# Altium schematic symbol library HV9110.SchLib: 27 symbols
Pins are listed as number, name and electrical type; pins without a type are passive.

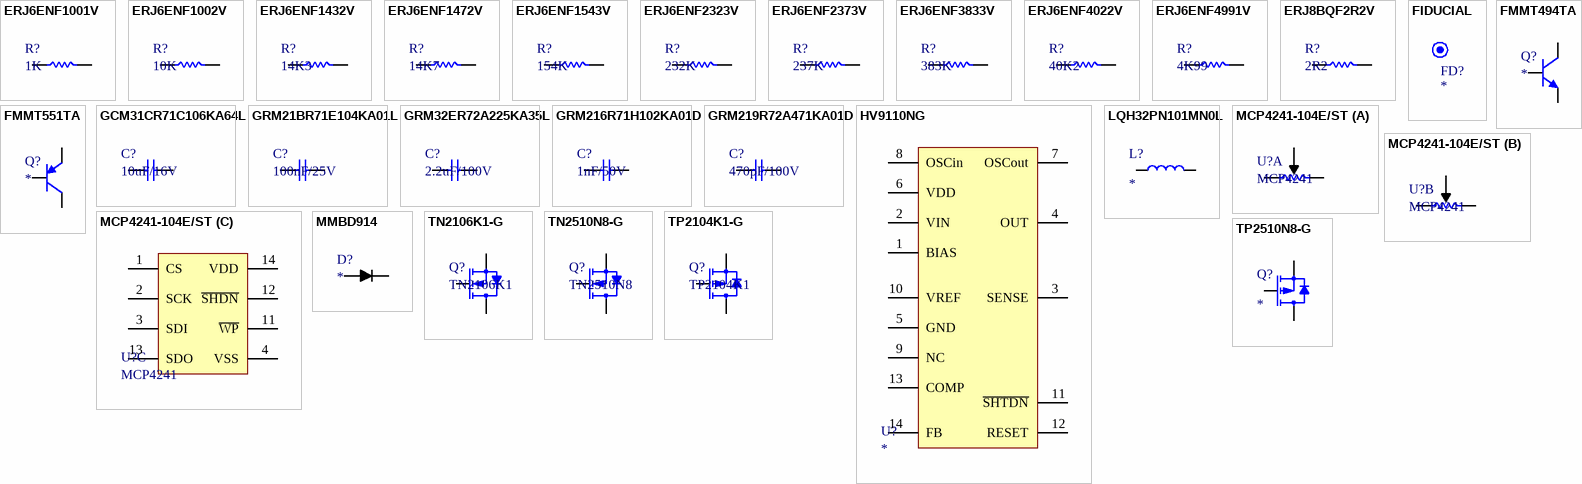
[diagram p0: symbols ERJ6ENF1001V to TP2510N8-G]

## ERJ6ENF1001V
designator R?, comment 1K
RESISTOR 0805 1K 1%; Manufacturer: Panasonic; Manufacturer Part Number: ERJ-6ENF1001V; Temperature Coefficient: 100ppm/°C; Power Rating: 125mW; Voltage Rating (DC): 150V; Supplier 1: Farnell; Stock 1: 0; Mount: Surface Mount; Case/Package: 0805; Number of Pins: 2; Min Operating Temperature: -55°C; Max Operating Temperature: 155°C; Resistance: 1K; Tolerance: 1%; Packaging: Cut Tape; Number of Terminations: 2; Working Voltage: 150V; Length: 2mm; Height: 0.6mm; Depth: 1.25mm; Width: 1.25mm; REACH SVHC: No SVHC; Lead Free: Lead Free
footprint RES 0805/2012 (Chip Resistor, 2-Leads, Body 2.00x1.25mm, IPC Medium Density)
pins: 1, 2

## ERJ6ENF1002V
designator R?, comment 10K
RESISTOR 0805 10K 1%; Manufacturer: Panasonic; Manufacturer Part Number: ERJ-6ENF1002V; Temperature Coefficient: 100ppm/°C; Power Rating: 125mW; Voltage Rating (DC): 150V; Supplier 1: Farnell; Stock 1: 0; Mount: Surface Mount; Case/Package: 0805; Number of Pins: 2; Contact Plating: Tin; Case Code (Metric): 2012; Case Code (Imperial): 0805; Min Operating Temperature: -55°C; Max Operating Temperature: 155°C; Resistance: 10K; Tolerance: 1%; Packaging: Tape and Reel; Composition: Thick Film; Voltage Rating: 150V; Package Quantity: 5000; Number of Terminations: 2; Termination: SMD/SMT; Military Standard: Not; Max Power Dissipation: 125mW; Working Voltage: 150V; Features: Automotive AEC-Q200; Length: 2mm; Height: 0.6mm; Width: 0.049inch; Depth: 1.25mm; Radiation Hardening: No; REACH SVHC: No SVHC; Lead Free: Lead Free; ComponentLink1URL: http://industrial.panasonic.com/www-data/pdf/AOA0000/AOA0000CE2.pdf?src-supplier=Avnet+Asia; ComponentLink1Description: http://industrial.panasonic.com/www-data/pdf/AOA0000/AOA0000CE2.pdf?src-supplier=Avnet+Asia; ComponentLink2URL: http://www.jameco.com/Jameco/Products/ProdDS/1988971.pdf?src-supplier=Jameco; ComponentLink2Description: http://www.jameco.com/Jameco/Products/ProdDS/1988971.pdf?src-supplier=Jameco; ComponentLink3URL: http://www.alliedelec.com/m/d/623f45ff1957d936ff56d46fd1c28cac.pdf?src-supplier=Allied+Electronics; ComponentLink3Description: http://www.alliedelec.com/m/d/623f45ff1957d936ff56d46fd1c28cac.pdf?src-supplier=Allied+Electronics; ComponentLink4URL: http://www.farnell.com/datasheets/426256.pdf?src-supplier=Element14; ComponentLink4Description: http://www.farnell.com/datasheets/426256.pdf?src-supplier=Element14; ComponentLink5URL: http://www.farnell.com/datasheets/1911175.pdf?src-supplier=Element14; ComponentLink5Description: http://www.farnell.com/datasheets/1911175.pdf?src-supplier=Element14; ComponentLink6URL: http://industrial.panasonic.com/www-data/pdf/AOA0000/AOA0000CE2.pdf?src-supplier=Avnet+Europe; ComponentLink6Description: http://industrial.panasonic.com/www-data/pdf/AOA0000/AOA0000CE2.pdf?src-supplier=Avnet+Europe; ComponentLink7URL: http://www.mouser.com/ds/2/315/AOA0000CE2-37512.pdf?src-supplier=Mouser; ComponentLink7Description: http://www.mouser.com/ds/2/315/AOA0000CE2-37512.pdf?src-supplier=Mouser
footprint RES 0805/2012 (Chip Resistor, 2-Leads, Body 2.00x1.25mm, IPC Medium Density)
pins: 1, 2

## ERJ6ENF1432V
designator R?, comment 14K3
RESISTOR 0805 14K3 1%; Manufacturer: Panasonic; Manufacturer Part Number: ERJ-6ENF1432V; Power Rating: 125mW; Voltage Rating: 150V; Temperature Coefficient: 100ppm/°C; Supplier 1: Farnell; Stock 1: 0; Mount: Surface Mount; Case/Package: 0805; Weight: 0.000194oz; Case Code (Metric): 2012; Case Code (Imperial): 0805; Contact Plating: Tin; Min Operating Temperature: -55°C; Max Operating Temperature: 155°C; Resistance: 14K3; Tolerance: 1%; Packaging: Tape and Reel; Package Quantity: 1; Composition: Thick Film; Number of Terminations: 2; Termination: SMD/SMT; Military Standard: Not; Max Power Dissipation: 125mW; Voltage Rating (DC): 150V; Features: Automotive AEC-Q200; Length: 2mm; Height: 0.028inch; Width: 0.049inch; Depth: 1.25mm; REACH SVHC: No SVHC; Lead Free: Lead Free; ComponentLink1URL: http://www.farnell.com/datasheets/1694929.pdf?src-supplier=Element14; ComponentLink1Description: http://www.farnell.com/datasheets/1694929.pdf?src-supplier=Element14; ComponentLink2URL: http://www.mouser.com/ds/2/315/AOA0000C304-1149620.pdf?src-supplier=Mouser; ComponentLink2Description: http://www.mouser.com/ds/2/315/AOA0000C304-1149620.pdf?src-supplier=Mouser; ComponentLink3URL: http://industrial.panasonic.com/www-data/pdf/AOA0000/AOA0000CE2.pdf?src-supplier=Avnet; ComponentLink3Description: http://industrial.panasonic.com/www-data/pdf/AOA0000/AOA0000CE2.pdf?src-supplier=Avnet; ComponentLink4URL: http://www.farnell.com/datasheets/1678782.pdf?src-supplier=Element14; ComponentLink4Description: http://www.farnell.com/datasheets/1678782.pdf?src-supplier=Element14
footprint RES 0805/2012 (Chip Resistor, 2-Leads, Body 2.00x1.25mm, IPC Medium Density)
pins: 1, 2

## ERJ6ENF1472V
designator R?, comment 14K7
RESISTOR 0805 14K7 1%; Manufacturer: Panasonic; Manufacturer Part Number: ERJ-6ENF1472V; Temperature Coefficient: 100ppm/°C; Power Rating: 125mW; Voltage Rating: 150V; Supplier 1: Farnell; Stock 1: 0; Mount: Surface Mount; Case/Package: 0805; Contact Plating: Tin; Case Code (Metric): 2012; Case Code (Imperial): 0805; Min Operating Temperature: -55°C; Max Operating Temperature: 155°C; Resistance: 14K7; Tolerance: 1%; Composition: Thick Film; Packaging: Tape and Reel; Package Quantity: 1; Number of Terminations: 2; Military Standard: Not; Termination: Solder; Max Power Dissipation: 125mW; Voltage Rating (DC): 150V; Features: Automotive AEC-Q200; Length: 2mm; Height: 0.6mm; Width: 0.049inch; Depth: 1.25mm; Radiation Hardening: No; REACH SVHC: No SVHC; Lead Free: Lead Free; ComponentLink1URL: http://www.farnell.com/datasheets/1678782.pdf?src-supplier=Element14; ComponentLink1Description: http://www.farnell.com/datasheets/1678782.pdf?src-supplier=Element14; ComponentLink2URL: https://www.alliedelec.com/m/d/623f45ff1957d936ff56d46fd1c28cac.pdf?src-supplier=Allied+Electronics; ComponentLink2Description: https://www.alliedelec.com/m/d/623f45ff1957d936ff56d46fd1c28cac.pdf?src-supplier=Allied+Electronics; ComponentLink3URL: http://industrial.panasonic.com/www-data/pdf/AOA0000/AOA0000CE2.pdf?src-supplier=Avnet; ComponentLink3Description: http://industrial.panasonic.com/www-data/pdf/AOA0000/AOA0000CE2.pdf?src-supplier=Avnet; ComponentLink4URL: http://industrial.panasonic.com/www-data/pdf/AOA0000/AOA0000CE2.pdf?src-supplier=Avnet+Europe; ComponentLink4Description: http://industrial.panasonic.com/www-data/pdf/AOA0000/AOA0000CE2.pdf?src-supplier=Avnet+Europe; ComponentLink5URL: http://www.farnell.com/datasheets/1678782.pdf?src-supplier=Farnell; ComponentLink5Description: http://www.farnell.com/datasheets/1678782.pdf?src-supplier=Farnell; ComponentLink6URL: http://www.mouser.com/ds/2/315/AOA0000C283-1093288.pdf?src-supplier=Mouser; ComponentLink6Description: http://www.mouser.com/ds/2/315/AOA0000C283-1093288.pdf?src-supplier=Mouser
footprint RES 0805/2012 (Chip Resistor, 2-Leads, Body 2.00x1.25mm, IPC Medium Density)
pins: 1, 2

## ERJ6ENF1543V
designator R?, comment 154K
RESISTOR 0805 154K 1%; Manufacturer: Panasonic; Manufacturer Part Number: ERJ-6ENF1543V; Temperature Coefficient: 100ppm/°C; Power Rating: 125mW; Voltage Rating: 150V; Supplier 1: Farnell; Stock 1: 0; Mount: Surface Mount; Case/Package: 0805; Contact Plating: Tin; Case Code (Metric): 2012; Case Code (Imperial): 0805; Min Operating Temperature: -55°C; Max Operating Temperature: 155°C; Resistance: 154K; Tolerance: 1%; Composition: Thick Film; Packaging: Tape and Reel; Package Quantity: 1; Number of Terminations: 2; Termination: SMD/SMT; Military Standard: Not; Max Power Dissipation: 125mW; Voltage Rating (DC): 150V; Features: Automotive AEC-Q200; Length: 2mm; Height: 0.6mm; Width: 0.049inch; Depth: 1.25mm; Height - Seated (Max): 0.028inch; Radiation Hardening: No; REACH SVHC: Yes; Lead Free: Lead Free; ComponentLink1URL: http://www.farnell.com/datasheets/1678782.pdf?src-supplier=Element14; ComponentLink1Description: http://www.farnell.com/datasheets/1678782.pdf?src-supplier=Element14; ComponentLink2URL: https://www.alliedelec.com/m/d/623f45ff1957d936ff56d46fd1c28cac.pdf?src-supplier=Allied+Electronics; ComponentLink2Description: https://www.alliedelec.com/m/d/623f45ff1957d936ff56d46fd1c28cac.pdf?src-supplier=Allied+Electronics; ComponentLink3URL: http://industrial.panasonic.com/www-data/pdf/AOA0000/AOA0000CE2.pdf?src-supplier=Avnet+Europe; ComponentLink3Description: http://industrial.panasonic.com/www-data/pdf/AOA0000/AOA0000CE2.pdf?src-supplier=Avnet+Europe; ComponentLink4URL: http://www.industrial.panasonic.com/www-data/pdf/AOA0000/AOA0000CE2.pdf?src-supplier=Element14; ComponentLink4Description: http://www.industrial.panasonic.com/www-data/pdf/AOA0000/AOA0000CE2.pdf?src-supplier=Element14
footprint RES 0805/2012 (Chip Resistor, 2-Leads, Body 2.00x1.25mm, IPC Medium Density)
pins: 1, 2

## ERJ6ENF2323V
designator R?, comment 232K
RESISTOR 0805 232K 1%; Manufacturer: Panasonic; Manufacturer Part Number: ERJ-6ENF2323V; Voltage Rating: 150V; Power Rating: 125mW; Temperature Coefficient: 100ppm/°C; Supplier 1: Farnell; Stock 1: 0; Mount: Surface Mount; Case/Package: 0805; Case Code (Imperial): 0805; Case Code (Metric): 2012; Contact Plating: Tin; Min Operating Temperature: -55°C; Max Operating Temperature: 155°C; Packaging: Tape and Reel; Resistance: 232K; Tolerance: 1%; Package Quantity: 5000; Termination: SMD/SMT; Composition: Thick Film; Number of Terminations: 2; Military Standard: Not; Max Power Dissipation: 125mW; Voltage Rating (DC): 150V; Features: Automotive AEC-Q200; Length: 2mm; Height: 0.6mm; Width: 1.2mm; Depth: 1.25mm; Height - Seated (Max): 0.028inch; Radiation Hardening: No; REACH SVHC: Yes; Lead Free: Lead Free; ComponentLink1URL: http://www.farnell.com/datasheets/1678782.pdf?src-supplier=Element14; ComponentLink1Description: http://www.farnell.com/datasheets/1678782.pdf?src-supplier=Element14; ComponentLink2URL: http://industrial.panasonic.com/www-data/pdf/AOA0000/AOA0000CE2.pdf?src-supplier=Avnet; ComponentLink2Description: http://industrial.panasonic.com/www-data/pdf/AOA0000/AOA0000CE2.pdf?src-supplier=Avnet; ComponentLink3URL: http://industrial.panasonic.com/www-data/pdf/AOA0000/AOA0000CE2.pdf?src-supplier=Avnet+Asia; ComponentLink3Description: http://industrial.panasonic.com/www-data/pdf/AOA0000/AOA0000CE2.pdf?src-supplier=Avnet+Asia
footprint RES 0805/2012 (Chip Resistor, 2-Leads, Body 2.00x1.25mm, IPC Medium Density)
pins: 1, 2

## ERJ6ENF2373V
designator R?, comment 237K
RESISTOR 0805 237K 1%; Manufacturer: Panasonic; Manufacturer Part Number: ERJ-6ENF2373V; Power Rating: 125mW; Voltage Rating: 150V; Temperature Coefficient: 100ppm/°C; Supplier 1: Farnell; Stock 1: 0; Mount: Surface Mount; Case/Package: 0805; Case Code (Imperial): 0805; Case Code (Metric): 2012; Contact Plating: Tin; Min Operating Temperature: -55°C; Max Operating Temperature: 155°C; Package Quantity: 1; Resistance: 237K; Packaging: Tape and Reel; Tolerance: 1%; Termination: SMD/SMT; Composition: Thick Film; Number of Terminations: 2; Military Standard: Not; Max Power Dissipation: 125mW; Voltage Rating (DC): 150V; Features: Automotive AEC-Q200; Length: 2mm; Height: 0.028inch; Width: 1.2mm; Depth: 1.25mm; REACH SVHC: No SVHC; Lead Free: Contains Lead; ComponentLink1URL: http://www.farnell.com/datasheets/1678782.pdf?src-supplier=Element14; ComponentLink1Description: http://www.farnell.com/datasheets/1678782.pdf?src-supplier=Element14
footprint RES 0805/2012 (Chip Resistor, 2-Leads, Body 2.00x1.25mm, IPC Medium Density)
pins: 1, 2

## ERJ6ENF3833V
designator R?, comment 383K
RESISTOR 0805 383K 1%; Manufacturer: Panasonic; Manufacturer Part Number: ERJ-6ENF3833V; Power Rating: 125mW; Voltage Rating: 150V; Temperature Coefficient: 100ppm/°C; Supplier 1: Farnell; Stock 1: 0; Mount: Surface Mount; Case/Package: 0805; Case Code (Metric): 2012; Case Code (Imperial): 0805; Contact Plating: Tin; Min Operating Temperature: -55°C; Max Operating Temperature: 155°C; Resistance: 383K; Tolerance: 1%; Packaging: Tape and Reel; Package Quantity: 1; Composition: Thick Film; Number of Terminations: 2; Termination: SMD/SMT; Military Standard: Not; Max Power Dissipation: 125mW; Voltage Rating (DC): 150V; Features: Automotive AEC-Q200; Length: 2mm; Height: 0.028inch; Width: 0.049inch; Depth: 1.25mm; REACH SVHC: Yes; Lead Free: Lead Free; ComponentLink1URL: http://www.farnell.com/datasheets/1678782.pdf?src-supplier=Farnell; ComponentLink1Description: http://www.farnell.com/datasheets/1678782.pdf?src-supplier=Farnell; ComponentLink2URL: http://industrial.panasonic.com/www-data/pdf/AOA0000/AOA0000CE2.pdf?src-supplier=Avnet; ComponentLink2Description: http://industrial.panasonic.com/www-data/pdf/AOA0000/AOA0000CE2.pdf?src-supplier=Avnet; ComponentLink3URL: http://www.mouser.com/ds/2/315/AOA0000CE2-37512.pdf?src-supplier=Mouser; ComponentLink3Description: http://www.mouser.com/ds/2/315/AOA0000CE2-37512.pdf?src-supplier=Mouser; ComponentLink4URL: http://www.farnell.com/datasheets/1678782.pdf?src-supplier=Element14; ComponentLink4Description: http://www.farnell.com/datasheets/1678782.pdf?src-supplier=Element14
footprint RES 0805/2012 (Chip Resistor, 2-Leads, Body 2.00x1.25mm, IPC Medium Density)
pins: 1, 2

## ERJ6ENF4022V
designator R?, comment 40K2
RESISTOR 0805 40K2 1%; Manufacturer: Panasonic; Manufacturer Part Number: ERJ-6ENF4022V; Temperature Coefficient: 100ppm/°C; Voltage Rating: 150V; Power Rating: 125mW; Supplier 1: Farnell; Stock 1: 0; Mount: Surface Mount; Case/Package: 0805; Contact Plating: Tin; Case Code (Metric): 2012; Case Code (Imperial): 0805; Min Operating Temperature: -55°C; Max Operating Temperature: 155°C; Resistance: 40K2; Tolerance: 1%; Composition: Thick Film; Packaging: Tape and Reel; Package Quantity: 1; Number of Terminations: 2; Termination: SMD/SMT; Military Standard: Not; Max Power Dissipation: 125mW; Voltage Rating (DC): 150V; Features: Automotive AEC-Q200; Length: 2mm; Height: 0.6mm; Width: 0.049inch; Depth: 1.25mm; Radiation Hardening: No; REACH SVHC: No SVHC; Lead Free: Lead Free; ComponentLink1URL: http://industrial.panasonic.com/www-data/pdf/AOA0000/AOA0000CE2.pdf?src-supplier=Avnet; ComponentLink1Description: http://industrial.panasonic.com/www-data/pdf/AOA0000/AOA0000CE2.pdf?src-supplier=Avnet; ComponentLink2URL: http://industrial.panasonic.com/www-data/pdf/AOA0000/AOA0000CE2.pdf?src-supplier=Avnet+Asia; ComponentLink2Description: http://industrial.panasonic.com/www-data/pdf/AOA0000/AOA0000CE2.pdf?src-supplier=Avnet+Asia; ComponentLink3URL: http://industrial.panasonic.com/www-data/pdf/AOA0000/AOA0000CE2.pdf?src-supplier=Avnet+Europe; ComponentLink3Description: http://industrial.panasonic.com/www-data/pdf/AOA0000/AOA0000CE2.pdf?src-supplier=Avnet+Europe; ComponentLink4URL: http://www.farnell.com/datasheets/426256.pdf?src-supplier=Element14; ComponentLink4Description: http://www.farnell.com/datasheets/426256.pdf?src-supplier=Element14; ComponentLink5URL: http://www.farnell.com/datasheets/1911175.pdf?src-supplier=Farnell; ComponentLink5Description: http://www.farnell.com/datasheets/1911175.pdf?src-supplier=Farnell
footprint RES 0805/2012 (Chip Resistor, 2-Leads, Body 2.00x1.25mm, IPC Medium Density)
pins: 1, 2

## ERJ6ENF4991V
designator R?, comment 4K99
RESISTOR 0805 4K99 1%; Manufacturer: Panasonic; Manufacturer Part Number: ERJ6ENF4991V; Temperature Coefficient: 100ppm/°C; Power Rating: 125mW; Voltage Rating: 150V; Supplier 1: Farnell; Stock 1: 0; Mount: Surface Mount; Case/Package: 0805; Contact Plating: Tin; Case Code (Metric): 2012; Case Code (Imperial): 0805; Min Operating Temperature: -55°C; Max Operating Temperature: 155°C; Resistance: 4K99; Tolerance: 1%; Composition: Thick Film; Packaging: Tape and Reel; Package Quantity: 5000; Number of Terminations: 2; Termination: SMD/SMT; Military Standard: Not; Max Power Dissipation: 125mW; Voltage Rating (DC): 150V; Features: Automotive AEC-Q200; Length: 2mm; Height: 0.028inch; Width: 0.049inch; Depth: 1.25mm; Radiation Hardening: No; REACH SVHC: No SVHC; Lead Free: Lead Free; ComponentLink1URL: http://www.jameco.com/Jameco/Products/ProdDS/1989391.pdf?src-supplier=Jameco; ComponentLink1Description: http://www.jameco.com/Jameco/Products/ProdDS/1989391.pdf?src-supplier=Jameco; ComponentLink2URL: http://www.alliedelec.com/m/d/623f45ff1957d936ff56d46fd1c28cac.pdf?src-supplier=Allied+Electronics; ComponentLink2Description: http://www.alliedelec.com/m/d/623f45ff1957d936ff56d46fd1c28cac.pdf?src-supplier=Allied+Electronics; ComponentLink3URL: http://www.farnell.com/datasheets/426256.pdf?src-supplier=Element14; ComponentLink3Description: http://www.farnell.com/datasheets/426256.pdf?src-supplier=Element14; ComponentLink4URL: http://industrial.panasonic.com/www-data/pdf/AOA0000/AOA0000CE2.pdf?src-supplier=Avnet; ComponentLink4Description: http://industrial.panasonic.com/www-data/pdf/AOA0000/AOA0000CE2.pdf?src-supplier=Avnet; ComponentLink5URL: http://www.mouser.com/ds/2/315/AOA0000CE2-37512.pdf?src-supplier=Mouser; ComponentLink5Description: http://www.mouser.com/ds/2/315/AOA0000CE2-37512.pdf?src-supplier=Mouser; ComponentLink6URL: http://industrial.panasonic.com/www-data/pdf/AOA0000/AOA0000CE2.pdf?src-supplier=Future+Electronics; ComponentLink6Description: http://industrial.panasonic.com/www-data/pdf/AOA0000/AOA0000CE2.pdf?src-supplier=Future+Electronics
footprint RES 0805/2012 (Chip Resistor, 2-Leads, Body 2.00x1.25mm, IPC Medium Density)
pins: 1, 2

## ERJ8BQF2R2V
designator R?, comment 2R2
RESISTOR 1206 2R2 1%; Manufacturer: Panasonic; Manufacturer Part Number: ERJ-8BQF2R2V; Temperature Coefficient: 200ppm/°C; Power Rating: 330mW; Max Power Dissipation: 500mW; Supplier 1: Farnell; Stock 1: 0; Pricing 1: 150=0.113, 500=0.089, 1000=0.0608, 2500=0.0557, 5000=0.0399, 25000=0.0355, 50000=0.035 (EUR); Mount: Surface Mount; Case/Package: 1206; Number of Pins: 2; Contact Plating: Tin; Case Code (Imperial): 1206; Case Code (Metric): 3216; Min Operating Temperature: -55°C; Max Operating Temperature: 125°C; Resistance: 2R2; Tolerance: 1%; Composition: Thick Film,Low-Ohm-Resistor; Packaging: Tape and Reel; Package Quantity: 5000; Termination: SMD/SMT; Number of Terminations: 2; Military Standard: Not; Features: Automotive AEC-Q200; Length: 3.2mm; Height: 0.6mm; Width: 1.6mm; Depth: 1.6mm; Radiation Hardening: No; REACH SVHC: No SVHC; ComponentLink1URL: http://industrial.panasonic.com/www-data/pdf/AOA0000/AOA0000CE3.pdf?src-supplier=Avnet+Europe; ComponentLink1Description: http://industrial.panasonic.com/www-data/pdf/AOA0000/AOA0000CE3.pdf?src-supplier=Avnet+Europe; ComponentLink2URL: http://uk.rs-online.com/webdocs/13b8/0900766b813b869e.pdf?src-supplier=RSComponents; ComponentLink2Description: http://uk.rs-online.com/webdocs/13b8/0900766b813b869e.pdf?src-supplier=RSComponents; ComponentLink3URL: http://www.farnell.com/datasheets/1951809.pdf?src-supplier=Farnell; ComponentLink3Description: http://www.farnell.com/datasheets/1951809.pdf?src-supplier=Farnell; ComponentLink4URL: http://www.farnell.com/datasheets/391509.pdf?src-supplier=Element14; ComponentLink4Description: http://www.farnell.com/datasheets/391509.pdf?src-supplier=Element14; ComponentLink5URL: https://www.distrelec.biz/Web/Downloads/_t/ds/ERJ_eng_tds.pdf?mime=application%2Fpdf&src-supplier=Distrelec; ComponentLink5Description: https://www.distrelec.biz/Web/Downloads/_t/ds/ERJ_eng_tds.pdf?mime=application%2Fpdf&src-supplier=Distrelec
footprint RES 1206/3216
pins: 1, 2

## FIDUCIAL
designator FD?
FIDUCIAL
footprint Fiducial

## FMMT494TA
designator Q?
TRANSISTOR NPN 120V 1A; Manufacturer: Diodes Zetex; Manufacturer Part Number: FMMT494TA; Max Power Dissipation: 500mW; Transition Frequency: 100MHz; Collector Base Voltage (VCBO): 140V; Number of Elements: 1; Emitter Base Voltage (VEBO): 7V; Collector Emitter Saturation Voltage: 300mV; Element Configuration: Single; Current Rating: 100mA; Supplier 1: Mouser; Stock 1: 9063; Mount: Surface Mount; Case/Package: SOT-23; Number of Pins: 3; Weight: 0.000282oz; Contact Plating: Tin,Matte; Min Operating Temperature: -55°C; Max Operating Temperature: 150°C; Collector Emitter Voltage (VCEO): 120V; Max Collector Current: 1A; Packaging: Tape and Reel; Collector Emitter Breakdown Voltage: 120V; Frequency: 100MHz; Package Quantity: 3000; Max Breakdown Voltage: 120V; Polarity: NPN; Continuous Collector Current: 1A; Power Dissipation: 500mW; Gain Bandwidth Product: 100MHz; Voltage Rating (DC): 120V; Max Frequency: 100MHz; Length: 3mm; Height: 1.1mm; Width: 1.4mm; Radiation Hardening: No; REACH SVHC: No SVHC; Lead Free: Lead Free; ComponentLink1URL: https://www.diodes.com/assets/Datasheets/FMMT494.pdf?src-supplier=Digi-Key; ComponentLink1Description: https://www.diodes.com/assets/Datasheets/FMMT494.pdf?src-supplier=Digi-Key; ComponentLink2URL: http://www.diodes.com/datasheets/FMMT494.pdf?src-supplier=Avnet; ComponentLink2Description: http://www.diodes.com/datasheets/FMMT494.pdf?src-supplier=Avnet; ComponentLink3URL: http://www.farnell.com/datasheets/13281.pdf?src-supplier=Element14; ComponentLink3Description: http://www.farnell.com/datasheets/13281.pdf?src-supplier=Element14; ComponentLink4URL: http://www.mouser.com/ds/2/115/FMMT494-71657.pdf?src-supplier=Mouser; ComponentLink4Description: http://www.mouser.com/ds/2/115/FMMT494-71657.pdf?src-supplier=Mouser; ComponentLink5URL: http://www.diodes.com///datasheets/FMMT494.pdf?src-supplier=Avnet; ComponentLink5Description: http://www.diodes.com///datasheets/FMMT494.pdf?src-supplier=Avnet; ComponentLink6URL: http://www.diodes.com/datasheets/FMMT494.pdf?src-supplier=Future+Electronics; ComponentLink6Description: http://www.diodes.com/datasheets/FMMT494.pdf?src-supplier=Future+Electronics
footprint SOT-23-3 (SOT23, 3-Leads, Body 2.90x2.40mm, Pitch 0.95mm, IPC Medium Density)
pins: 1 B, 2 E, 3 C

## FMMT551TA
designator Q?
TRANSISTOR PNP 60V 1A; Manufacturer: Diodes Zetex; Manufacturer Part Number: FMMT551TA; Max Power Dissipation: 500mW; Collector Base Voltage (VCBO): 80V; Transition Frequency: 150MHz; Emitter Base Voltage (VEBO): 5V; Element Configuration: Single; Continuous Collector Current: -1A; Number of Elements: 1; Collector Emitter Saturation Voltage: -350mV; Voltage Rating (DC): -60V; Supplier 1: Mouser; Stock 1: 8971; Mount: Surface Mount; Case/Package: SOT-23; Number of Pins: 3; Weight: 0.000282oz; Contact Plating: Tin,Matte; Min Operating Temperature: -55°C; Max Operating Temperature: 200°C; Collector Emitter Voltage (VCEO): 60V; Max Collector Current: 1A; Packaging: Tape and Reel; Package Quantity: 3000; Collector Emitter Breakdown Voltage: 60V; Polarity: PNP; Gain Bandwidth Product: 150MHz; Frequency: 150MHz; Max Breakdown Voltage: 60V; Max Frequency: 150MHz; Power Dissipation: 500mW; Current Rating: -1A; Length: 3mm; Height: 1.1mm; Width: 1.4mm; Radiation Hardening: No; REACH SVHC: No SVHC; Lead Free: Lead Free; ComponentLink1URL: http://www.diodes.com///datasheets/FMMT551.pdf?src-supplier=Avnet; ComponentLink1Description: http://www.diodes.com///datasheets/FMMT551.pdf?src-supplier=Avnet; ComponentLink2URL: https://www.diodes.com/assets/Datasheets/FMMT551.pdf?src-supplier=Digi-Key; ComponentLink2Description: https://www.diodes.com/assets/Datasheets/FMMT551.pdf?src-supplier=Digi-Key; ComponentLink3URL: https://www.verical.com/server-webapp/html/getDatasheet?partID=145814&src-supplier=Verical; ComponentLink3Description: https://www.verical.com/server-webapp/html/getDatasheet?partID=145814&src-supplier=Verical; ComponentLink4URL: http://www.diodes.com//datasheets/FMMT551.pdf?src-supplier=Avnet; ComponentLink4Description: http://www.diodes.com//datasheets/FMMT551.pdf?src-supplier=Avnet
footprint SOT-23-3 (SOT23, 3-Leads, Body 2.90x2.40mm, Pitch 0.95mm, IPC Medium Density)
pins: 1 B, 2 E, 3 C

## GCM31CR71C106KA64L
designator C?, comment 10uF/16V
CAPACITOR 1206 10uF 16V X7R 10%; Manufacturer: Murata; Manufacturer Part Number: GCM31CR71C106KA64L; Supplier 1: Farnell; Stock 1: 0; Pricing 1: 150=0.579, 250=0.528, 500=0.424 (EUR); Mount: Surface Mount; Case/Package: 1206; Case Code (Metric): 3216; Case Code (Imperial): 1206; Min Operating Temperature: -55°C; Max Operating Temperature: 125°C; Capacitance: 10uF; Tolerance: 10%; Dielectric: X7R; Packaging: Tape and Reel; Package Quantity: 1; Voltage Rating: 16V; Voltage Rating (DC): 16V; Termination: SMD/SMT; Voltage: 16V; Length: 3.2mm; Height: 1.6mm; Width: 0.063inch; Thickness: 0.071inch; Depth: 1.6mm; Ratings: AEC-Q200; Radiation Hardening: No; REACH SVHC: No SVHC; Lead Free: Lead Free; ComponentLink1URL: http://psearch.murata.com/capacitor/product/GCM31CR71C106KA64%23.pdf?src-supplier=Avnet; ComponentLink1Description: http://psearch.murata.com/capacitor/product/GCM31CR71C106KA64%23.pdf?src-supplier=Avnet; ComponentLink2URL: http://search.murata.co.jp/Ceramy/image/img/A01X/partnumbering_e_02.pdf?src-supplier=Digi-Key; ComponentLink2Description: http://search.murata.co.jp/Ceramy/image/img/A01X/partnumbering_e_02.pdf?src-supplier=Digi-Key; ComponentLink3URL: http://psearch.murata.com/capacitor/product/GCM31CR71C106KA64%23.pdf?src-supplier=Future+Electronics; ComponentLink3Description: http://psearch.murata.com/capacitor/product/GCM31CR71C106KA64%23.pdf?src-supplier=Future+Electronics; ComponentLink4URL: http://psearch.murata.com/capacitor/product/GCM31CR71C106KA64%23.pdf?src-supplier=Avnet+Europe; ComponentLink4Description: http://psearch.murata.com/capacitor/product/GCM31CR71C106KA64%23.pdf?src-supplier=Avnet+Europe; ComponentLink5URL: https://www.verical.com/server-webapp/html/getDatasheet?partID=153103&src-supplier=Verical; ComponentLink5Description: https://www.verical.com/server-webapp/html/getDatasheet?partID=153103&src-supplier=Verical; Value: 10uF/16V
footprint CAP 1206/3216 (Chip Capacitor, 2-Leads, Body 3.25x1.60mm, IPC Medium Density)
pins: 1, 2

## GRM21BR71E104KA01L
designator C?, comment 100nF/25V
CAPACITOR 0805 100nF 25V X7R 10%; Manufacturer: Murata; Manufacturer Part Number: GRM21BR71E104KA01L; Supplier 1: Farnell; Stock 1: 0; Mount: Surface Mount; Case/Package: 0805; Number of Pins: 2; Weight: 0.000194oz; Case Code (Imperial): 0805; Case Code (Metric): 2012; Min Operating Temperature: -55°C; Max Operating Temperature: 125°C; Capacitance: 100nF; Tolerance: 10%; Dielectric: X7R; Voltage Rating: 25V; Voltage Rating (DC): 25V; Packaging: Tape and Reel; Package Quantity: 1; Termination: SMD/SMT; Voltage: 25V; Length: 2mm; Height: 1.25mm; Width: 1.25mm; Thickness: 0.053inch; Depth: 1.25mm; Radiation Hardening: No; REACH SVHC: No SVHC; Lead Free: Lead Free; ComponentLink1URL: http://psearch.murata.com/capacitor/product/GRM21BR71E104KA01%23.pdf?src-supplier=Future+Electronics; ComponentLink1Description: http://psearch.murata.com/capacitor/product/GRM21BR71E104KA01%23.pdf?src-supplier=Future+Electronics; ComponentLink2URL: https://search.murata.co.jp/Ceramy/image/img/A01X/G101/ENG/GRM21BR71E104KA01-01.pdf?src-supplier=Digi-Key; ComponentLink2Description: https://search.murata.co.jp/Ceramy/image/img/A01X/G101/ENG/GRM21BR71E104KA01-01.pdf?src-supplier=Digi-Key; ComponentLink3URL: http://www.farnell.com/datasheets/608985.pdf?src-supplier=Element14; ComponentLink3Description: http://www.farnell.com/datasheets/608985.pdf?src-supplier=Element14; ComponentLink4URL: http://components.arrow.com/part/dataview/5434837S9850839N2606?src-supplier=Arrow; ComponentLink4Description: http://components.arrow.com/part/dataview/5434837S9850839N2606?src-supplier=Arrow; ComponentLink5URL: http://uk.rs-online.com/webdocs/1423/0900766b81423cc8.pdf?src-supplier=RSComponents; ComponentLink5Description: http://uk.rs-online.com/webdocs/1423/0900766b81423cc8.pdf?src-supplier=RSComponents; Value: 100nF/25V
footprint CAP 0805/2012 (Chip Capacitor, 2-Leads, Body 2.00x1.20mm, IPC Medium Density)
pins: 1, 2

## GRM32ER72A225KA35L
designator C?, comment 2.2uF/100V
CAPACITOR 1210 2.2uF 100V X7R 10%; Manufacturer: Murata; Manufacturer Part Number: GRM32ER72A225KA35L; Supplier 1: Farnell; Stock 1: 0; Pricing 1: 1000=0.5 (EUR); Mount: Surface Mount; Case/Package: 1210; Number of Pins: 2; Case Code (Metric): 3225; Case Code (Imperial): 1210; Min Operating Temperature: -55°C; Max Operating Temperature: 125°C; Capacitance: 2.2uF; Tolerance: 10%; Dielectric: X7R; Voltage Rating: 100V; Package Quantity: 1000; Packaging: Tape and Reel; Voltage Rating (DC): 100V; Termination: SMD/SMT; Voltage: 100V; Length: 3.2mm; Height: 2.5mm; Width: 0.098inch; Thickness: 0.106inch; Depth: 2.5mm; REACH SVHC: No SVHC; Lead Free: Lead Free; ComponentLink1URL: https://www.murata.com/~/media/webrenewal/support/library/catalog/products/capacitor/mlcc/c02e.ashx?la=en-us&src-supplier=Digi-Key; ComponentLink1Description: https://www.murata.com/~/media/webrenewal/support/library/catalog/products/capacitor/mlcc/c02e.ashx?la=en-us&src-supplier=Digi-Key; ComponentLink2URL: http://components.arrow.com/part/dataview/41899073S6988588N2606?src-supplier=Arrow; ComponentLink2Description: http://components.arrow.com/part/dataview/41899073S6988588N2606?src-supplier=Arrow; ComponentLink3URL: https://www.distrelec.biz/Web/Downloads/_t/ds/murata_MLCC_eng_tds.pdf?mime=application%2Fpdf&src-supplier=Distrelec; ComponentLink3Description: https://www.distrelec.biz/Web/Downloads/_t/ds/murata_MLCC_eng_tds.pdf?mime=application%2Fpdf&src-supplier=Distrelec; ComponentLink4URL: http://www.farnell.com/datasheets/2048710.pdf?src-supplier=Element14; ComponentLink4Description: http://www.farnell.com/datasheets/2048710.pdf?src-supplier=Element14; ComponentLink5URL: http://www.farnell.com/datasheets/608985.pdf?src-supplier=Element14; ComponentLink5Description: http://www.farnell.com/datasheets/608985.pdf?src-supplier=Element14; Value: 2.2uF/100V
footprint CAP 1210/3225 (Chip Capacitor, 2-Leads, Body 3.20x2.50mm, IPC Medium Density)
pins: 1, 2

## GRM216R71H102KA01D
designator C?, comment 1nF/50V
CAPACITOR 0805 1nF 50V X7R 10%; Manufacturer: Murata; Manufacturer Part Number: GRM216R71H102KA01D; Material: Ceramic; Supplier 1: Farnell; Stock 1: 0; Mount: Surface Mount; Case/Package: 0805; Number of Pins: 2; Case Code (Imperial): 0805; Case Code (Metric): 2012; Min Operating Temperature: -55°C; Max Operating Temperature: 125°C; Capacitance: 1nF; Tolerance: 10%; Dielectric: X7R; Voltage Rating: 50V; Voltage Rating (DC): 50V; Packaging: Tape and Reel; Package Quantity: 4000; Termination: SMD/SMT; Voltage: 50V; Length: 2mm; Height: 0.6mm; Depth: 1.25mm; Width: 1.25mm; Thickness: 0.028inch; Radiation Hardening: No; REACH SVHC: No SVHC; Lead Free: Lead Free; ComponentLink1URL: http://www1.futureelectronics.com/doc/Murata/murata%20GRM216R71H102KA01D.pdf?src-supplier=Future+Electronics; ComponentLink1Description: http://www1.futureelectronics.com/doc/Murata/murata%20GRM216R71H102KA01D.pdf?src-supplier=Future+Electronics; ComponentLink2URL: http://www.rapidonline.com/pdf/71-2004.pdf?src-supplier=Rapid+Electronics; ComponentLink2Description: http://www.rapidonline.com/pdf/71-2004.pdf?src-supplier=Rapid+Electronics; ComponentLink3URL: https://www.murata.com/~/media/webrenewal/support/library/catalog/products/capacitor/mlcc/c02e.ashx?la=en-us&src-supplier=Digi-Key; ComponentLink3Description: https://www.murata.com/~/media/webrenewal/support/library/catalog/products/capacitor/mlcc/c02e.ashx?la=en-us&src-supplier=Digi-Key; ComponentLink4URL: https://www.distrelec.biz/Web/Downloads/_t/ds/murata_MLCC_eng_tds.pdf?mime=application%2Fpdf&src-supplier=Distrelec; ComponentLink4Description: https://www.distrelec.biz/Web/Downloads/_t/ds/murata_MLCC_eng_tds.pdf?mime=application%2Fpdf&src-supplier=Distrelec; ComponentLink5URL: http://www.murata.com/~/media/webrenewal/support/library/catalog/products/capacitor/mlcc/c02e.ashx?src-supplier=Avnet; ComponentLink5Description: http://www.murata.com/~/media/webrenewal/support/library/catalog/products/capacitor/mlcc/c02e.ashx?src-supplier=Avnet; ComponentLink6URL: http://www.murata.com/products/catalog/pdf/c02e.pdf?src-supplier=Avnet; ComponentLink6Description: http://www.murata.com/products/catalog/pdf/c02e.pdf?src-supplier=Avnet; ComponentLink7URL: http://search.murata.co.jp/Ceramy/image/img/A01X/partnumbering_e_01.pdf?src-supplier=Digi-Key; ComponentLink7Description: http://search.murata.co.jp/Ceramy/image/img/A01X/partnumbering_e_01.pdf?src-supplier=Digi-Key; ComponentLink8URL: http://www.murata.com/products/catalog/pdf/c02e.pdf?src-supplier=Avnet+Europe; ComponentLink8Description: http://www.murata.com/products/catalog/pdf/c02e.pdf?src-supplier=Avnet+Europe; ComponentLink9URL: http://components.arrow.com/part/dataview/40420870S3442898N2606?src-supplier=Arrow; ComponentLink9Description: http://components.arrow.com/part/dataview/40420870S3442898N2606?src-supplier=Arrow; ComponentLink10URL: http://www.farnell.com/datasheets/2048646.pdf?src-supplier=Element14; ComponentLink10Description: http://www.farnell.com/datasheets/2048646.pdf?src-supplier=Element14; ComponentLink11URL: https://produktinfo.conrad.com/datenblaetter/450000-474999/452509-da-01-en-VS_KONDENSATOR_0805.pdf?src-supplier=Conrad; ComponentLink11Description: https://produktinfo.conrad.com/datenblaetter/450000-474999/452509-da-01-en-VS_KONDENSATOR_0805.pdf?src-supplier=Conrad; Value: 1nF/50V
footprint CAP 0805/2012 (Chip Capacitor, 2-Leads, Body 2.00x1.20mm, IPC Medium Density)
pins: 1, 2

## GRM219R72A471KA01D
designator C?, comment 470pF/100V
CAPACITOR 0805 470pF 100V X7R 10%; Manufacturer: Murata; Manufacturer Part Number: GRM219R72A471KA01D; Supplier 1: Mouser; Stock 1: 3726; Mount: Surface Mount; Case/Package: 0805; Case Code (Metric): 2012; Case Code (Imperial): 0805; Min Operating Temperature: -55°C; Max Operating Temperature: 125°C; Capacitance: 470pF; Tolerance: 10%; Dielectric: X7R; Packaging: Tape and Reel; Package Quantity: 4000; Voltage Rating: 100V; Voltage Rating (DC): 100V; Termination: SMD/SMT; Length: 2mm; Height: 0.85mm; Depth: 1.25mm; Width: 0.049inch; Thickness: 0.037inch; Radiation Hardening: No; ComponentLink1URL: http://www.murata.com/products/catalog/pdf/c02e.pdf?src-supplier=Avnet; ComponentLink1Description: http://www.murata.com/products/catalog/pdf/c02e.pdf?src-supplier=Avnet; ComponentLink2URL: http://www.murata.com/products/catalog/pdf/c02e.pdf?src-supplier=Avnet+Europe; ComponentLink2Description: http://www.murata.com/products/catalog/pdf/c02e.pdf?src-supplier=Avnet+Europe; ComponentLink3URL: http://search.murata.co.jp/Ceramy/image/img/A01X/partnumbering_e_01.pdf?src-supplier=Digi-Key; ComponentLink3Description: http://search.murata.co.jp/Ceramy/image/img/A01X/partnumbering_e_01.pdf?src-supplier=Digi-Key; ComponentLink4URL: http://www.mouser.com/ds/2/281/c02e-2905.pdf?src-supplier=Mouser; ComponentLink4Description: http://www.mouser.com/ds/2/281/c02e-2905.pdf?src-supplier=Mouser; Value: 470pF/100V
footprint CAP 0805/2012 (Chip Capacitor, 2-Leads, Body 2.00x1.20mm, IPC Medium Density)
pins: 1, 2

## HV9110NG
designator U?
HV PWM Controller; Manufacturer: Microchip Supertex; Manufacturer Part Number: HV9110NG; Output Voltage: 4.08V; Rise Time: 30ns; Switching Frequency: 3MHz; Fall Time: 20ns; Topology: Push-Pull; Max Supply Voltage: 13.5V; Duty Cycle: 49.6%; Supplier 1: Mouser; Stock 1: 0; Mount: Surface Mount; Case/Package: SOIC; Number of Pins: 14; Weight: 0.011923oz; Packaging: Rail/Tube; Package Quantity: 53; ComponentLink1URL: http://www.mouser.com/ds/2/268/supertex_hv9110-523053.pdf?src-supplier=Mouser; ComponentLink1Description: http://www.mouser.com/ds/2/268/supertex_hv9110-523053.pdf?src-supplier=Mouser
footprint SOIC-14 (SOIC, 14-Leads, Body 8,65x3,90mm, Pitch 1,27mm, IPC Medium Density)
pins: 1 BIAS, 2 VIN, 3 SENSE, 4 OUT, 5 GND, 6 VDD, 7 OSCout, 8 OSCin, 9 NC, 10 VREF, 11 ~{SHTDN}, 12 RESET, 13 COMP, 14 FB

## LQH32PN101MN0L
designator L?
INDUCTOR 100uH 250mA 3.24Ohm 20%; Manufacturer: Murata; Manufacturer Part Number: LQH32PN101MN0L; Core Material: Ferrite; Shielding: Shielded; Self Resonant Frequency: 8MHz; DC Resistance (DCR): 3.24R; Test Frequency: 1MHz; Max DC Current: 180mA; Supplier 1: Mouser; Stock 1: 1346; Mount: Surface Mount; Case/Package: 1210; Weight: 0.001552oz; Case Code (Metric): 3225; Case Code (Imperial): 1210; Min Operating Temperature: -40°C; Max Operating Temperature: 85°C; Inductance: 100uH; Tolerance: 20%; Package Quantity: 2000; Packaging: Tape and Reel; Current Rating: 250mA; Termination: SMD/SMT; Composition: Wirewound; Saturation Current: 180mA; DC Current: 250mA; Military Standard: Not; Length: 3.2mm; Height: 2mm; Width: 0.098inch; Height - Seated (Max): 0.086inch; Depth: 2.8mm; Lead Free: Lead Free; ComponentLink1URL: http://www.mouser.com/ds/2/281/o05e-522697.pdf?src-supplier=Mouser; ComponentLink1Description: http://www.mouser.com/ds/2/281/o05e-522697.pdf?src-supplier=Mouser; ComponentLink2URL: http://uk.rs-online.com/webdocs/1256/0900766b81256105.pdf?src-supplier=RSComponents; ComponentLink2Description: http://uk.rs-online.com/webdocs/1256/0900766b81256105.pdf?src-supplier=RSComponents
footprint IND 1210/3225 (Chip Capacitor, 2-Leads, Body 3.20x2.50mm, IPC Medium Density)
pins: 1, 2

## MCP4241-104E/ST
designator U?, comment MCP4241
DIGIPOT 100K 2CH 129-Steps; Manufacturer: Microchip; Manufacturer Part Number: MCP4241-104E/ST; Resistance: 100kR; Memory Type: Non-Volatile; Number of Positions: 128; Nominal Supply Current: 550uA; Max Supply Voltage: 5.5V; Min Supply Voltage: 1.8V; Interface: SPI,Serial; Number of Taps: 129; Number of Circuits: 2; Temperature Coefficient: 150ppm/°C; Tolerance: 20%; Operating Supply Voltage: 5V; Supplier 1: Mouser; Stock 1: 476; Mount: Surface Mount; Case/Package: TSSOP; Number of Pins: 14; Min Operating Temperature: -40°C; Max Operating Temperature: 125°C; Packaging: Rail/Tube; Package Quantity: 96; Number of Elements: 2; ComponentLink1URL: http://ww1.microchip.com/downloads/en/DeviceDoc/22059b.pdf?src-supplier=Avnet; ComponentLink1Description: http://ww1.microchip.com/downloads/en/DeviceDoc/22059b.pdf?src-supplier=Avnet; ComponentLink2URL: http://www.microchip.com/mymicrochip/filehandler.aspx?ddocname=en531683&src-supplier=Digi-Key; ComponentLink2Description: http://www.microchip.com/mymicrochip/filehandler.aspx?ddocname=en531683&src-supplier=Digi-Key; ComponentLink3URL: http://ww1.microchip.com/downloads/en/DeviceDoc/22059b.pdf?src-supplier=Avnet+Europe; ComponentLink3Description: http://ww1.microchip.com/downloads/en/DeviceDoc/22059b.pdf?src-supplier=Avnet+Europe
footprint TSSOP14 (TSSOP, 14-Leads, Body 5,00x4,40mm, Pitch 0,65mm, IPC Medium Density)
part A pins: 5, 6, 7
part B pins: 8, 9, 10
part C pins: 1 CS, 2 SCK, 3 SDI, 4 VSS, 11 ~{WP}, 12 ~{SHDN}, 13 SDO, 14 VDD

## MMBD914
designator D?
DIODE 100V 200MA; Manufacturer: ON Semiconductor / Fairchild; Manufacturer Part Number: MMBD914; Forward Voltage: 1V; Reverse Recovery Time: 4ns; Element Configuration: Single; Max Surge Current: 2A; Power Dissipation: 350mW; Peak Reverse Current: 5uA; Polarity: Standard; Capacitance: 4pF; Test Current: 10mA; Supplier 1: Farnell; Stock 1: 0; Mount: Surface Mount; Case/Package: SOT-23; Number of Pins: 3; Weight: 0.03g; Contact Plating: Tin,Matte; Min Operating Temperature: -55°C; Max Operating Temperature: 150°C; Packaging: Tape and Reel; Forward Current: 200mA; Average Rectified Current: 200mA; Max Reverse Voltage (DC): 100V; Package Quantity: 1; Recovery Time: 4ns; Max Repetitive Reverse Voltage (Vrrm): 100V; Peak Non-Repetitive Surge Current: 2A; Voltage Rating (DC): 100V; Current Rating: 200mA; Max Forward Surge Current (Ifsm): 2A; Output Current: 200mA; Termination: SMD/SMT; Reverse Voltage: 100V; Length: 2.92mm; Height: 0.93mm; Width: 1.3mm; Radiation Hardening: No; Lead Free: Lead Free; REACH SVHC: No SVHC; ComponentLink1URL: http://www.farnell.com/datasheets/240454.pdf?src-supplier=Element14; ComponentLink1Description: http://www.farnell.com/datasheets/240454.pdf?src-supplier=Element14; ComponentLink2URL: https://media.digikey.com/pdf/Data%20Sheets/ON%20Semiconductor%20PDFs/MMBD914.pdf?src-supplier=Digi-Key; ComponentLink2Description: https://media.digikey.com/pdf/Data%20Sheets/ON%20Semiconductor%20PDFs/MMBD914.pdf?src-supplier=Digi-Key; ComponentLink3URL: https://www.fairchildsemi.com/datasheets/MM/MMBD914.pdf?src-supplier=Avnet+Europe; ComponentLink3Description: https://www.fairchildsemi.com/datasheets/MM/MMBD914.pdf?src-supplier=Avnet+Europe; ComponentLink4URL: https://www.fairchildsemi.com/package-drawings/MA/MA03B.pdf?src-supplier=Digi-Key; ComponentLink4Description: https://www.fairchildsemi.com/package-drawings/MA/MA03B.pdf?src-supplier=Digi-Key; ComponentLink5URL: http://www.farnell.com/datasheets/1899822.pdf?src-supplier=Element14; ComponentLink5Description: http://www.farnell.com/datasheets/1899822.pdf?src-supplier=Element14
footprint SOT-23-3 (SOT23, 3-Leads, Body 2.90x2.40mm, Pitch 0.95mm, IPC Medium Density)
pins: 1 A, 3 K

## TN2106K1-G
designator Q?, comment TN2106K1
MOSFET N-CH 60V 0.28A; Manufacturer: Microchip Supertex; Manufacturer Part Number: TN2106K1-G; Rise Time: 5ns; Continuous Drain Current (ID): 280mA; Drain to Source Resistance: 2.5R; Turn-Off Delay Time: 6ns; Gate to Source Voltage (Vgs): 20V; Element Configuration: Single; Power Dissipation: 360mW; Number of Elements: 1; Supplier 1: Farnell; Stock 1: 0; Pricing 1: 150=0.323, 250=0.294, 500=0.25, 1000=0.213 (EUR); Mount: Surface Mount; Case/Package: SOT-23; Number of Pins: 3; Min Operating Temperature: -55°C; Max Operating Temperature: 150°C; Package Quantity: 3000; Fall Time: 5ns; Packaging: Tape and Reel; Drain to Source Breakdown Voltage: 60V; Radiation Hardening: No; ComponentLink1URL: https://www.verical.com/server-webapp/html/getDatasheet?partID=139752&src-supplier=Verical; ComponentLink1Description: https://www.verical.com/server-webapp/html/getDatasheet?partID=139752&src-supplier=Verical; ComponentLink2URL: http://www.onlinecomponents.com/productFiles/mf-SUX/14tn2106.pdf?src-supplier=Onlinecomponents.com; ComponentLink2Description: http://www.onlinecomponents.com/productFiles/mf-SUX/14tn2106.pdf?src-supplier=Onlinecomponents.com
footprint SOT-23-3 (SOT23, 3-Leads, Body 2.90x2.40mm, Pitch 0.95mm, IPC Medium Density)
pins: 1 G, 2 S, 3 D

## TN2510N8-G
designator Q?, comment TN2510N8
MOSFET N-CH 100V 0.73A; Manufacturer: Microchip Supertex; Manufacturer Part Number: TN2510N8-G; Element Configuration: Single; Power Dissipation: 1.6W; Number of Elements: 1; Rise Time: 10ns; Continuous Drain Current (ID): 730mA; Drain to Source Resistance: 1.5R; Turn-Off Delay Time: 20ns; Gate to Source Voltage (Vgs): 20V; Supplier 1: Mouser; Stock 1: 1540; Mount: Surface Mount; Case/Package: SOT-89; Number of Pins: 4; Min Operating Temperature: -55°C; Max Operating Temperature: 150°C; Package Quantity: 2000; Packaging: Tape and Reel; Fall Time: 10ns; Drain to Source Breakdown Voltage: 100V; Radiation Hardening: No; Lead Free: Lead Free; ComponentLink1URL: http://www.supertex.com/pdf/datasheets/TN2510.pdf?src-supplier=Avnet; ComponentLink1Description: http://www.supertex.com/pdf/datasheets/TN2510.pdf?src-supplier=Avnet; ComponentLink2URL: http://www.mouser.com/ds/2/391/TN2510-39636.pdf?src-supplier=Mouser; ComponentLink2Description: http://www.mouser.com/ds/2/391/TN2510-39636.pdf?src-supplier=Mouser; ComponentLink3URL: http://www.onlinecomponents.com/productFiles/mf-SUX/tn2510.pdf?src-supplier=Onlinecomponents.com; ComponentLink3Description: http://www.onlinecomponents.com/productFiles/mf-SUX/tn2510.pdf?src-supplier=Onlinecomponents.com
footprint SOT-89 (SOT89, 3-Leads, Body 4,50x2,45mm, Pitch 1,50mm, Lead Span 4,1mm, IPC Medium Density)
pins: 1 G, 2 D, 3 S

## TP2104K1-G
designator Q?, comment TP2104K1
MOSFET P-CH 40V 0.16A; Manufacturer: Microchip; Manufacturer Part Number: TP2104K1-G; Continuous Drain Current (ID): -160mA; Element Configuration: Single; Drain to Source Resistance: 6R; Gate to Source Voltage (Vgs): 20V; Fall Time: 4ns; Turn-Off Delay Time: 5ns; Drain to Source Voltage (Vdss): -40V; Max Power Dissipation: 360mW; Number of Channels: 1; Input Capacitance: 60pF; Supplier 1: Farnell; Stock 1: 0; Pricing 1: 150=0.416, 250=0.374, 500=0.319, 1000=0.269 (EUR); Mount: Surface Mount; Case/Package: SOT-23-3; Number of Pins: 3; Weight: 0.050717oz; Contact Plating: Tin,Matte; Min Operating Temperature: -55°C; Max Operating Temperature: 150°C; Rise Time: 4ns; Package Quantity: 3000; Turn-On Delay Time: 4ns; Packaging: Tape and Reel; Drain to Source Breakdown Voltage: -40V; Rds On Max: 6R; Length: 2.9mm; Height: 0.95mm; Width: 1.3mm
footprint SOT-23-3 (SOT23, 3-Leads, Body 2.90x2.40mm, Pitch 0.95mm, IPC Medium Density)
pins: 1 G, 2 S, 3 D

## TP2510N8-G
designator Q?
MOSFET P-CH 100V 0.48A; Manufacturer: Microchip; Manufacturer Part Number: TP2510N8-G; Continuous Drain Current (ID): 480mA; Element Configuration: Single; Drain to Source Resistance: 3.5R; Gate to Source Voltage (Vgs): 20V; Fall Time: 15ns; Turn-Off Delay Time: 20ns; Max Power Dissipation: 1.6W; Number of Channels: 1; Turn-On Delay Time: 10ns; Input Capacitance: 125pF; Supplier 1: Farnell; Stock 1: 0; Pricing 1: 10=1.03, 25=0.87, 100=0.7 (EUR); Mount: Surface Mount; Case/Package: SOT-89-3; Weight: 0.001862oz; Min Operating Temperature: -55°C; Max Operating Temperature: 150°C; Packaging: Tape and Reel; Rise Time: 15ns; Package Quantity: 2000; Drain to Source Voltage (Vdss): 100V; Rds On Max: 3.5R; Length: 4.6mm; Height: 1.6mm; Width: 2.6mm; Lead Free: Lead Free
footprint SOT-89 (SOT89, 3-Leads, Body 4,50x2,45mm, Pitch 1,50mm, Lead Span 4,1mm, IPC Medium Density)
pins: 1 G, 2 S, 3 D